# Altium footprint library PcbLib1.PcbLib: 23 footprints (part 1 of 2)
Each footprint in its own frame and in the unit in brackets; x right, y up, seen from the top. Pads: shape width x height; smd on the part's side, far side on the other; paste and mask are expansions set on the pad; w line width, h text height; cw(c..) or ccw(c..) is an arc to the next point about the centre after c.
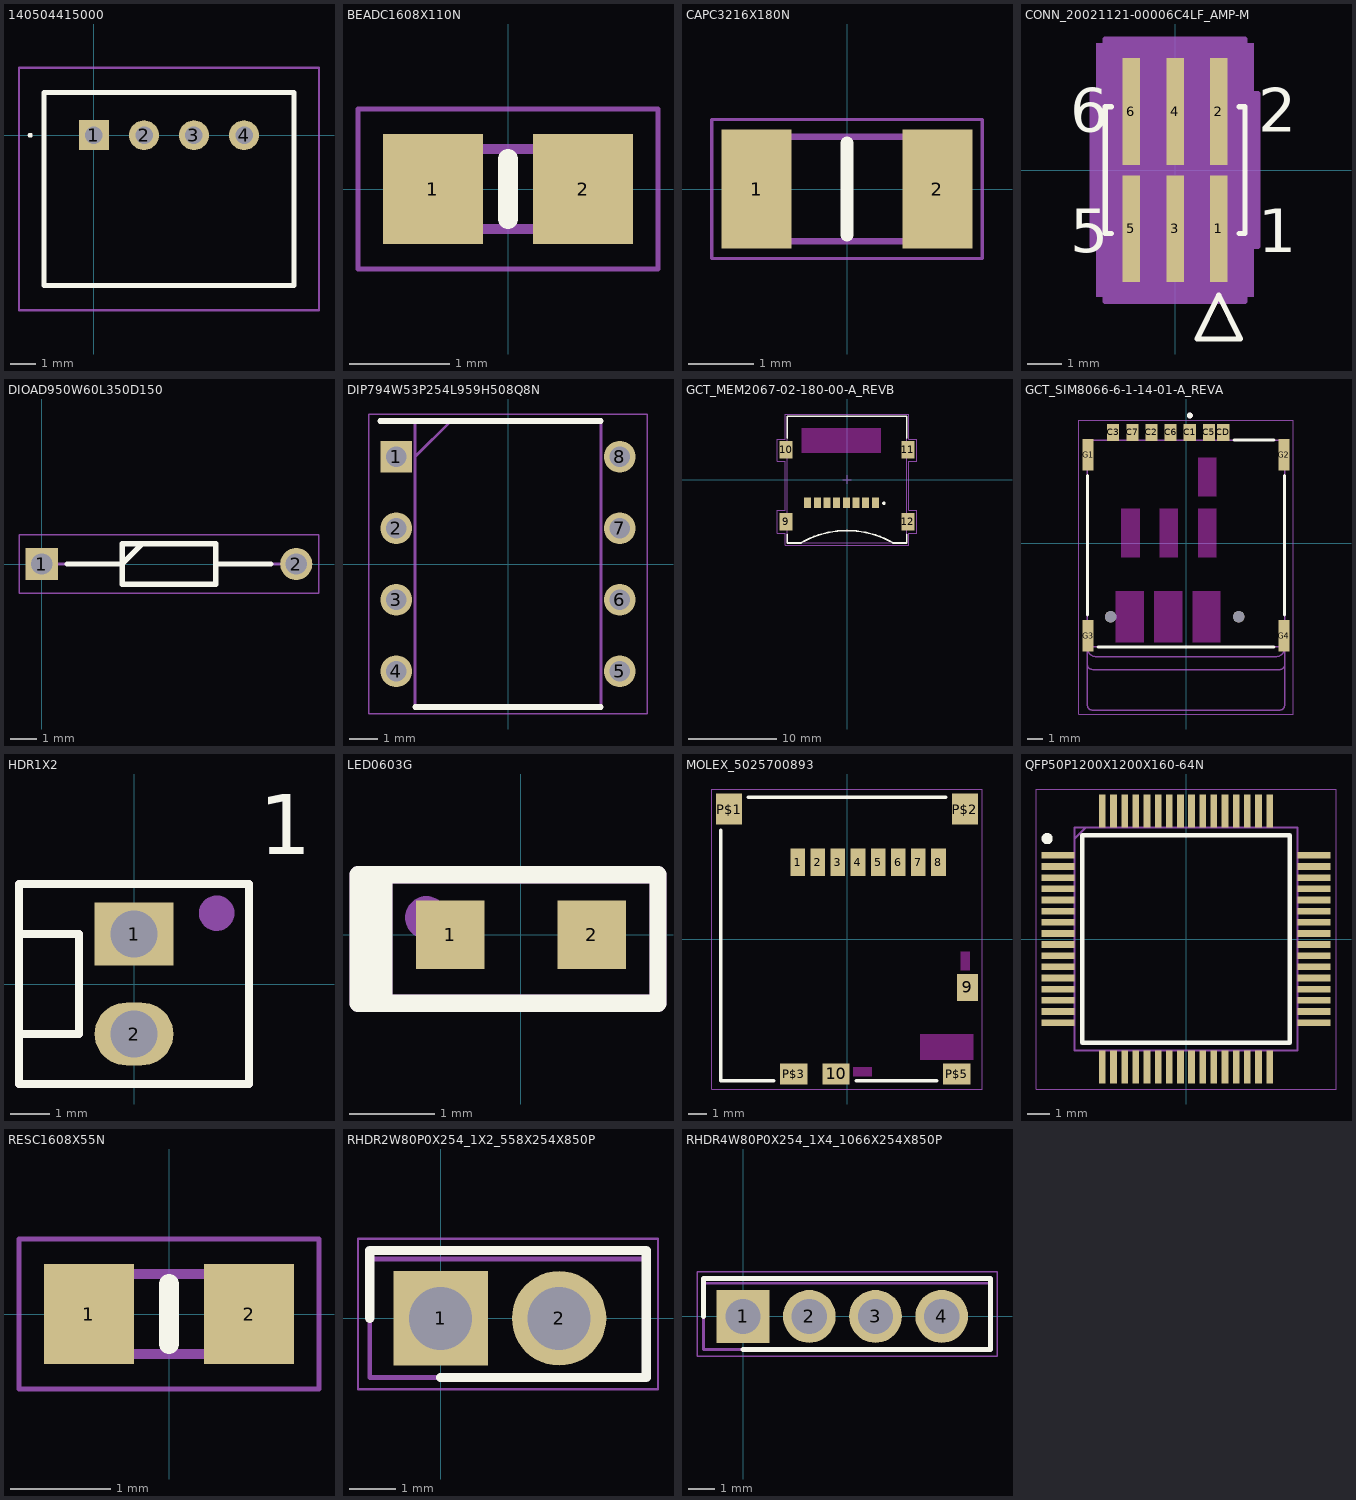
[diagram p0: the footprints below, top view; thin cyan lines are the x and y axes]

## 140-504-415-smbus-header [mm]
3D body "140-504-415-001.stp": height 6.1, standoff -3.41, extent -5.302,-2.943 4.698,1.757

## 140504415000 [mm]
pads (4):
  rect 1.2x1.2 hole 0.7: 1(0,0)
  round 1.2 hole 0.7: 2(2,0) 3(4,0) 4(6,0)
Top Overlay:
  lines w0.1: -2.6,0 cw(c-2.55,0) -2.5,0 cw(c-2.55,0) -2.6,0
  lines w0.2: -2,-6 -2,1.7 8,1.7 8,-6 -2,-6
Mechanical 13:
  lines w0.1: -2,-6 -2,1.7 8,1.7 8,-6 -2,-6
Mechanical 15:
  lines w0.1: -3,-7 -3,2.7 9,2.7 9,-7 -3,-7
3D body "140-504-415-000.stp": height 5.35, standoff -5, extent 1.985,-6.604 11.985,1.096

## BEADC1608X110N [mm]
pads (2):
  rect 1x1.1 smd: 1(-0.75,0) 2(0.75,0)
Top Overlay:
  lines w0.2: 0,-0.3 0,0.3
Mechanical 13:
  lines w0.1: -0.8,-0.4 0.8,-0.4 0.8,0.4 -0.8,0.4 -0.8,-0.4
Mechanical 15:
  lines w0.05: -1.5,-0.8 1.5,-0.8 1.5,0.8 -1.5,0.8 -1.5,-0.8
3D body "2506033007Y3.stp": height 1.1, standoff 0, extent -0.8,-0.4 0.8,0.4

## CAPC3216X180N [mm]
pads (2):
  rect 1.07x1.82 smd: 1(-1.38,0) 2(1.38,0)
Top Overlay:
  lines w0.2: 0,-0.7 0,0.7
Mechanical 13:
  lines w0.1: -1.6,-0.8 -1.6,0.8 1.6,0.8 1.6,-0.8 -1.6,-0.8
Mechanical 15:
  lines w0.05: -2.065,-1.06 -2.065,1.06 2.065,1.06 2.065,-1.06 -2.065,-1.06
3D body "GRM31CD80J107MEA8L.stp": height 1.8, standoff 0, extent -1.6,-0.8 1.6,0.8

## CONN_20021121-00006C4LF_AMP-M [mil]
pads (6):
  rect 20x122.37 smd paste+0 mask+0: 1(50,-67) 2(50,67) 3(0,-67) 4(0,67) 5(-50,-67) 6(-50,67)
Top Overlay:
  lines w6: -73.1,-72.5 -80,-72.5 -80,72.5 -73.1,72.5 ; 73.1,-72.5 80,-72.5 80,72.5 73.1,72.5 ; 25,-193.25 75,-193.25 50,-143.25 25,-193.25
  text "5" at -120,-93.97 h50
  text "6" at -120,43.97 h50
  text "1" at 95,-93.97 h50
  text "2" at 95,43.97 h50
Mechanical 5:
  region: 90,-145.15 -90,-145.15 -90,145.15 90,145.15
Mechanical 13:
  lines w1: -75,-67.5 -75,67.5 75,67.5 75,-67.5 -75,-67.5 ; 25,-193.25 75,-193.25 50,-143.25 25,-193.25
  text "5" at -120,-93.97 h50
  text "6" at -120,43.97 h50
  text "1" at 95,-93.97 h50
  text "2" at 95,43.97 h50
Mechanical 15:
  region: 75,-67.5 -75,-67.5 -75,67.5 75,67.5
  region: -80,-87.5 -95,-87.5 -95,87.5 -80,87.5 -80,150.15 80,150.15 80,87.5 95,87.5 95,-87.5 80,-87.5 80,-150.15 -80,-150.15
  lines w6: -95,-87.5 -80,-87.5 -80,-150.15 80,-150.15 80,-87.5 95,-87.5 95,87.5 80,87.5 80,150.15 -80,150.15 -80,87.5 -95,87.5 -95,-87.5
3D body "CONN_20021121-00006C4LF_AMP.step": height 179.02, standoff 0, extent -75,-118.5 75,118.5

## DIOAD950W60L350D150 [mm]
pads (2):
  rect 1.2x1.2 hole 0.8: 1(0,0)
  round 1.2 hole 0.8: 2(9.5,0)
Top Overlay:
  lines w0.2: 0.95,0 3,0 3.75,0.75 ; 6.5,0 8.55,0 ; 3,-0.75 3,0.75 6.5,0.75 6.5,-0.75 3,-0.75
Mechanical 13:
  lines w0.1: 0,0 3,0 3.75,0.75 ; 6.5,0 9.5,0 ; 3,-0.75 3,0.75 6.5,0.75 6.5,-0.75 3,-0.75
Mechanical 15:
  lines w0.05: -0.85,-1.1 -0.85,1.1 10.35,1.1 10.35,-1.1 -0.85,-1.1
3D body "TZX3V3A-TR.stp": height 1.69, standoff -1.7, extent -0.298,-0.848 9.8,0.848

## DIP794W53P254L959H508Q8N [mm]
pads (8):
  rect 1.13x1.13 hole 0.73: 1(-3.97,3.81)
  round 1.13 hole 0.73: 2(-3.97,1.27) 3(-3.97,-1.27) 4(-3.97,-3.81) 5(3.97,-3.81) 6(3.97,-1.27) 7(3.97,1.27) 8(3.97,3.81)
Top Overlay:
  lines w0.2: -4.535,5.08 3.3,5.08 ; -3.3,-5.08 3.3,-5.08
Mechanical 13:
  lines w0.1: -3.3,3.81 -2.03,5.08 ; -3.3,-5.08 -3.3,5.08 3.3,5.08 3.3,-5.08 -3.3,-5.08
Mechanical 15:
  lines w0.05: -4.945,-5.33 -4.945,5.33 4.945,5.33 4.945,-5.33 -4.945,-5.33
3D body "LM358P.stp": height 4.21, standoff -3.37, extent -4.102,-4.635 4.102,4.635

## GCT_MEM2067-02-180-00-A_REVB [mm]
pads (12):
  rect 0.8x1.2 smd: 1(3.225,-2.625) 2(2.125,-2.625) 3(1.025,-2.625) 4(-0.075,-2.625) 5(-1.175,-2.625) 6(-2.275,-2.625) 7(-3.375,-2.625) 8(-4.475,-2.625)
  rect 1.5x2 smd: 9(-6.945,-4.825) 10(-6.945,3.375) 11(6.945,3.375) 12(6.945,-4.825)
Top Overlay:
  circle w0.2: c4.2,-2.7 r0.1
  lines w0.2: -6.8,-6.275 -6.8,-7.225 -5.25,-7.225 ; -6.8,4.725 -6.8,7.225 6.8,7.225 6.8,4.725 ; -5.226,-7.211 cw(c0,-16.264) 5.226,-7.211 ; 5.25,-7.225 6.8,-7.225 6.8,-6.275
Keep-Out Layer:
  region: 3.85,3.028 -5.155,3.028 -5.155,5.825 3.85,5.825
Mechanical 13:
  lines w0.1: -6.8,2.77 -7.3,2.77 -7.3,3.97 -6.8,3.97 ; -0.5,0 0.5,0 ; 0,-0.5 0,0.5 ; -6.8,-5.4 -6.8,-7.225 6.8,-7.225 6.8,-5.4 ; -6.8,-5.4 -6.8,-4.2 ; -6.8,-5.4 -7.3,-5.4 -7.3,-4.2 -6.8,-4.2 ; -6.8,-4.2 -6.8,7.225 6.8,7.225 6.8,3.97 ; 6.8,-5.4 7.3,-5.4 7.3,-4.2 6.8,-4.2 ; 6.8,-5.4 6.8,-4.2 ; 6.8,-4.2 6.8,2.77 ; 6.8,2.77 7.3,2.77 7.3,3.97 6.8,3.97 ; 6.8,2.77 6.8,3.97
Mechanical 15:
  lines w0.05: -7.95,-6.096 -7.95,-3.505 -7.061,-3.505 -7.061,2.108 -7.95,2.108 -7.95,4.597 -7.061,4.597 -7.061,7.468 7.061,7.468 7.061,4.597 7.95,4.597 7.95,2.108 7.061,2.108 7.061,-3.505 7.95,-3.505 7.95,-6.096 7.061,-6.096 7.061,-7.468 -7.061,-7.468 -7.061,-6.096 -7.95,-6.096
3D body "MEM2067-02-180-00-A--3DModel-STEP-56544.STEP": height 1.8, standoff 0, extent -7.3,-7.239 7.3,7.211

## GCT_SIM8066-6-1-14-01-A_REVA [mm]
pads (13):
  rect 0.8x1.14 smd: C1(0.25,7.37) C2(-2.29,7.37) C3(-4.83,7.37) C5(1.52,7.37) C6(-1.02,7.37) C7(-3.56,7.37) CD(2.47,7.37)
  rect 0.7x2.1 smd: G1(-6.5,5.89) G2(6.5,5.89) G3(-6.5,-6.11) G4(6.5,-6.11)
  round 0.75 hole 0.75 unplated: ""(-5,-4.86) ""(3.5,-4.86)
Top Overlay:
  circle w0.2: c0.25,8.49 r0.1
  lines w0.2: -6.545,-4.74 -6.545,4.52 ; -5.83,-6.86 5.83,-6.86 ; 3.19,6.86 5.83,6.86 ; 6.545,-4.74 6.545,4.52
Keep-Out Layer:
  region: 2,3.135 0.8,3.135 0.8,5.685 2,5.685
  region: 2,3.135 0.8,3.135 0.8,5.685 2,5.685
  region: -0.255,-6.56 -2.105,-6.56 -2.105,-3.16 -0.255,-3.16
  region: -0.255,-6.56 -2.105,-6.56 -2.105,-3.16 -0.255,-3.16
  region: -2.795,-6.56 -4.645,-6.56 -4.645,-3.16 -2.795,-3.16
  region: -2.795,-6.56 -4.645,-6.56 -4.645,-3.16 -2.795,-3.16
  region: 2.285,-6.56 0.435,-6.56 0.435,-3.16 2.285,-3.16
  region: 2,-0.915 0.8,-0.915 0.8,2.295 2,2.295
  region: -0.54,-0.915 -1.74,-0.915 -1.74,2.295 -0.54,2.295
  region: -3.08,-0.915 -4.28,-0.915 -4.28,2.295 -3.08,2.295
  region: 2.285,-6.56 0.435,-6.56 0.435,-3.16 2.285,-3.16
  region: 2,-0.915 0.8,-0.915 0.8,2.295 2,2.295
  region: -0.54,-0.915 -1.74,-0.915 -1.74,2.295 -0.54,2.295
  region: -3.08,-0.915 -4.28,-0.915 -4.28,2.295 -3.08,2.295
Mechanical 13:
  circle w0.2: c0.25,8.49 r0.1
  lines w0.1: -6.545,-10.713 ccw(c-6.198,-10.713) -6.198,-11.06 ; -6.545,-10.71 -6.545,-8.01 -6.545,-6.86 ; -6.545,-8.013 ccw(c-6.198,-8.013) -6.198,-8.36 ; -6.2,-11.06 6.2,-11.06 ; -6.2,-8.36 6.2,-8.36 ccw(c6.222,-8.037) 6.545,-8.06 ; 6.198,-11.06 ccw(c6.198,-10.713) 6.545,-10.713 ; 6.545,-10.71 6.545,-8.06 ; -6.545,-6.86 ccw(c-5.947,-6.913) -6,-7.51 6,-7.51 ccw(c5.947,-6.913) 6.545,-6.86 ; -6.545,-6.86 -6.545,6.86 6.545,6.86 6.545,-6.86 ; -6.545,-6.86 6.545,-6.86 ; 6.545,-8.06 6.545,-6.86
Mechanical 15:
  lines w0.05: -7.1,-11.31 -7.1,8.19 7.1,8.19 7.1,-11.31 -7.1,-11.31
3D body "SIM8066-6-1-14-01-A--3DModel-STEP-56544.STEP": height 1.44, standoff -0.37, extent -6.545,-7.321 6.545,7.259

## HDR1X2 [mm]
pads (2):
  rect 2x1.6 hole 1.2: 1(0,1.27)
  oval 2x1.6 hole 1.2: 2(0,-1.27)
Top Overlay:
  lines w0.2: -2.921,-1.27 -1.397,-1.27 -1.397,1.27 -2.794,1.27 ; -2.921,-2.54 2.921,-2.54 2.921,2.54 -2.921,2.54 -2.921,-2.54
  text "1" at 3.175,3.302 h1.52
Mechanical 29:
  circle w0.5: c2.1,1.8 r0.2
  lines w0.2: -2.921,-1.27 -1.397,-1.27 -1.397,1.27 -2.794,1.27 ; -2.921,-2.54 2.921,-2.54 2.921,2.54 -2.921,2.54 -2.921,-2.54
  text "'.Designator'" at -0.6,-0.6 h1.2
3D body "22-29-2021.stp": height 10.12, standoff -5.14, extent -2.88,-2.54 2.92,2.54

## LED0603G [mm]
pads (2):
  rect 0.8x0.8 smd: 1(-0.825,0) 2(0.825,0)
Top Overlay:
  rectangle: -1.9,-0.8 -1.5,0.6
  lines w0.2: -1.9,-0.8 1.6,-0.8 1.6,0.7 -1.9,0.7 -1.9,-0.8
Mechanical 29:
  circle w0.3: c-1.1,0.2 r0.1
  rectangle: -1.9,-0.8 -1.5,0.7
  lines w0.2: -1.9,-0.8 -1.9,0.7 1.6,0.7 1.6,-0.8 -1.9,-0.8
  text "'.Designator'" at -0.6,-0.267 h0.7
3D body "User Library-SMD LED 0603.step": height 0.4, standoff 0.01, extent -0.8,-0.4 0.8,0.4

## MOLEX_5025700893 [mm]
pads (14):
  rect 0.8x1.5 smd: 1(-2.7,4.2) 2(-1.6,4.2) 3(-0.5,4.2) 4(0.6,4.2) 5(1.7,4.2) 6(2.8,4.2) 7(3.9,4.2) 8(5,4.2)
  rect 1.15x1.5 smd: 9(6.575,-2.65)
  rect 1.5x1.15 smd: 10(-0.6,-7.375) P$3(-2.9,-7.375) P$5(6,-7.375)
  rect 1.4x1.7 smd: P$1(-6.45,7.1) P$2(6.45,7.1)
Top Overlay:
  lines w0.2: -6.9,5.95 -6.9,-7.75 -4,-7.75 ; -5.4,7.75 5.4,7.75 ; 0.5,-7.75 4.9,-7.75
Keep-Out Layer:
  region: 1.35,-7.514 0.351,-7.514 0.351,-7 1.35,-7
  region: 1.35,-7.513 0.351,-7.513 0.351,-7 1.35,-7
  region: 6.9,-6.609 4.005,-6.609 4.005,-5.2 6.9,-5.2
  region: 6.7,-1.703 6.21,-1.703 6.21,-0.7 6.7,-0.7
  region: 6.7,-1.701 6.205,-1.701 6.205,-0.7 6.7,-0.7
  region: 6.9,-6.604 4.002,-6.604 4.002,-5.2 6.9,-5.2
Mechanical 15:
  lines w0.05: -7.4,-8.2 7.4,-8.2 7.4,8.2 -7.4,8.2 -7.4,-8.2
3D body "502570-0893--3DModel-STEP-1.STEP": height 1.95, standoff 0, extent -6.9,-7.75 6.9,7.75

## QFP50P1200X1200X160-64N [mm]
pads (64):
  rect 1.475x0.3 smd: 1(-5.738,3.75) 2(-5.738,3.25) 3(-5.738,2.75) 4(-5.738,2.25) 5(-5.738,1.75) 6(-5.738,1.25) 7(-5.738,0.75) 8(-5.738,0.25) 9(-5.738,-0.25) 10(-5.738,-0.75) 11(-5.738,-1.25) 12(-5.738,-1.75) 13(-5.738,-2.25) 14(-5.738,-2.75) 15(-5.738,-3.25) 16(-5.738,-3.75) 33(5.738,-3.75) 34(5.738,-3.25) 35(5.738,-2.75) 36(5.738,-2.25) 37(5.738,-1.75) 38(5.738,-1.25) 39(5.738,-0.75) 40(5.738,-0.25) 41(5.738,0.25) 42(5.738,0.75) 43(5.738,1.25) 44(5.738,1.75) 45(5.738,2.25) 46(5.738,2.75) 47(5.738,3.25) 48(5.738,3.75)
  rect 0.3x1.475 smd: 17(-3.75,-5.738) 18(-3.25,-5.738) 19(-2.75,-5.738) 20(-2.25,-5.738) 21(-1.75,-5.738) 22(-1.25,-5.738) 23(-0.75,-5.738) 24(-0.25,-5.738) 25(0.25,-5.738) 26(0.75,-5.738) 27(1.25,-5.738) 28(1.75,-5.738) 29(2.25,-5.738) 30(2.75,-5.738) 31(3.25,-5.738) 32(3.75,-5.738) 49(3.75,5.738) 50(3.25,5.738) 51(2.75,5.738) 52(2.25,5.738) 53(1.75,5.738) 54(1.25,5.738) 55(0.75,5.738) 56(0.25,5.738) 57(-0.25,5.738) 58(-0.75,5.738) 59(-1.25,5.738) 60(-1.75,5.738) 61(-2.25,5.738) 62(-2.75,5.738) 63(-3.25,5.738) 64(-3.75,5.738)
Top Overlay:
  circle w0.25: c-6.225,4.5 r0.125
  lines w0.2: -4.65,-4.65 -4.65,4.65 4.65,4.65 4.65,-4.65 -4.65,-4.65
Mechanical 13:
  lines w0.1: -5,4.5 -4.5,5 ; -5,-5 -5,5 5,5 5,-5 -5,-5
Mechanical 15:
  lines w0.05: -6.725,-6.725 -6.725,6.725 6.725,6.725 6.725,-6.725 -6.725,-6.725
3D body "STM32F072RBT6.stp": height 1.6, standoff 0, extent -6,-6 6,6

## RESC1608X55N [mm]
pads (2):
  rect 0.9x1 smd: 1(-0.8,0) 2(0.8,0)
Top Overlay:
  lines w0.2: 0,-0.3 0,0.3
Mechanical 13:
  lines w0.1: -0.8,-0.4 -0.8,0.4 0.8,0.4 0.8,-0.4 -0.8,-0.4
Mechanical 15:
  lines w0.05: -1.5,-0.75 -1.5,0.75 1.5,0.75 1.5,-0.75 -1.5,-0.75
3D body "CRG0603F470R.stp": height 0.55, standoff 0, extent -0.8,-0.4 0.8,0.4

## RHDR2W80P0X254_1X2_558X254X850P [mm]
pads (2):
  rect 2.025x2.025 hole 1.35: 1(0,0)
  round 2.025 hole 1.35: 2(2.54,0)
Top Overlay:
  lines w0.2: -1.52,0 -1.52,1.455 4.41,1.455 4.41,-1.27 0,-1.27
Mechanical 13:
  lines w0.1: -1.52,-1.27 -1.52,1.27 4.41,1.27 4.41,-1.27 -1.52,-1.27
Mechanical 15:
  lines w0.05: -1.77,-1.52 -1.77,1.705 4.66,1.705 4.66,-1.52 -1.77,-1.52
3D body "PPTC021LFBN-RC.stp": height 8.5, standoff -3.5, extent -1.52,-1.27 4.06,1.27

## RHDR4W80P0X254_1X4_1066X254X850P [mm]
pads (4):
  rect 2.025x2.025 hole 1.35: 1(0,0)
  round 2.025 hole 1.35: 2(2.54,0) 3(5.08,0) 4(7.62,0)
Top Overlay:
  lines w0.2: -1.52,0 -1.52,1.455 9.49,1.455 9.49,-1.27 0,-1.27
Mechanical 13:
  lines w0.1: -1.52,-1.27 9.49,-1.27 9.49,1.27 -1.52,1.27 -1.52,-1.27
Mechanical 15:
  lines w0.05: -1.77,-1.52 9.74,-1.52 9.74,1.705 -1.77,1.705 -1.77,-1.52
3D body "PPTC041LFBN-RC.stp": height 8.5, standoff -3.5, extent -1.52,-1.27 9.14,1.27